# EAGLE library part TLC59116-TSSOP (library iridia)
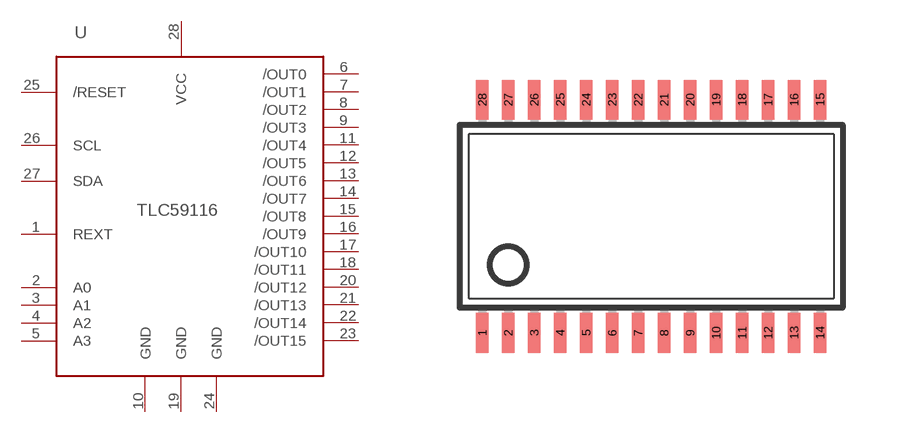
[diagram p16: symbol with the pads of TSSOP28; footprint TSSOP28]

Designator prefix -

## TLC59116-TSSOP  [TSSOP28]
1  REXT
2  A0
3  A1
4  A2
5  A3
6  /OUT0
7  /OUT1
8  /OUT2
9  /OUT3
10  GND
11  /OUT4
12  /OUT5
13  /OUT6
14  /OUT7
15  /OUT8
16  /OUT9
17  /OUT10
18  /OUT11
19  GND
20  /OUT12
21  /OUT13
22  /OUT14
23  /OUT15
24  GND
25  /RESET
26  SCL
27  SDA
28  VCC

## Footprint TSSOP28 (pad centres in mm)
Thin Shrink Small Outline Plastic 28 TSSOP-28 TSSOP28 TSSOP_28
smd 0.305 x 0.991: 1 -4.225,-2.918; 2 -3.575,-2.918; 3 -2.925,-2.918; 4 -2.275,-2.918; 5 -1.625,-2.918; 6 -0.975,-2.918; 7 -0.325,-2.918; 8 0.325,-2.918; 9 0.975,-2.918; 10 1.625,-2.918; 11 2.275,-2.918; 12 2.925,-2.918; 13 3.575,-2.918; 14 4.225,-2.918; 15 4.225,2.918; 16 3.575,2.918; 17 2.925,2.918; 18 2.275,2.918; 19 1.625,2.918; 20 0.975,2.918; 21 0.325,2.918; 22 -0.325,2.918; 23 -0.975,2.918; 24 -1.625,2.918; 25 -2.275,2.918; 26 -2.925,2.918; 27 -3.575,2.918; 28 -4.225,2.918